# EAGLE library part TFCARD (library Namenlos)
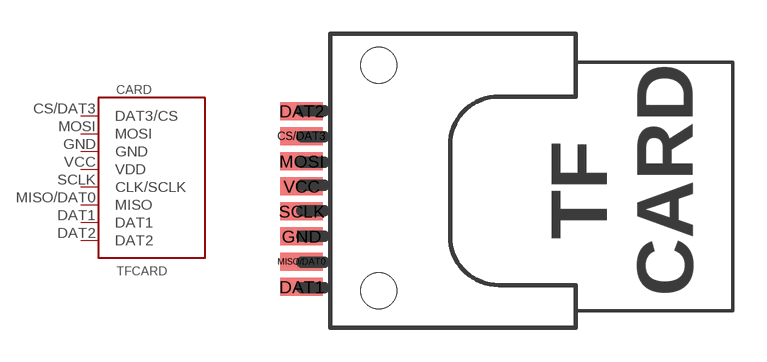
[diagram p42: symbol with the pads of SD-TF; footprint SD-TF]

Designator prefix CARD

## TFCARDW/O-DETECT  [SD-TF]
CS/DAT3  DAT3/CS
DAT1  DAT1
DAT2  DAT2
GND  GND  pwr
MISO/DAT0  MISO
MOSI  MOSI
SCLK  CLK/SCLK
VCC  VDD  pwr

## Footprint SD-TF (pad centres in mm)
smd 1.9 x 0.8: CS/DAT3 -3.429,2.05; DAT1 -3.429,-4.66; DAT2 -3.429,3.16; GND -3.429,-2.413; MISO/DAT0 -3.429,-3.54; MOSI -3.429,0.925; SCLK -3.429,-1.3; VCC -3.429,-0.19
hole 1.6 at 0,-4.826
hole 1.6 at 0,5.207